# EAGLE library part AS6C4008 (library sram)
AS6C4008 static ram
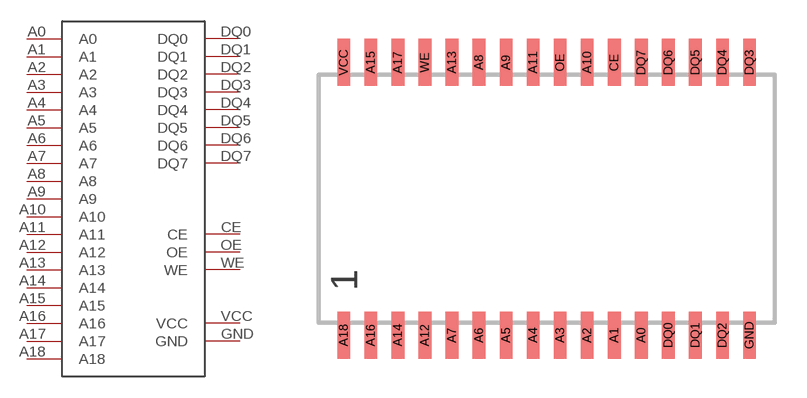
[diagram p0: symbol with the pads of SOP32; footprint SOP32]

Designator prefix -

## AS6C4008  [SOP32]
A0  A0
A1  A1
A2  A2
A3  A3
A4  A4
A5  A5
A6  A6
A7  A7
A8  A8
A9  A9
A10  A10
A11  A11
A12  A12
A13  A13
A14  A14
A15  A15
A16  A16
A17  A17
A18  A18
CE  CE
DQ0  DQ0
DQ1  DQ1
DQ2  DQ2
DQ3  DQ3
DQ4  DQ4
DQ5  DQ5
DQ6  DQ6
DQ7  DQ7
GND  GND
OE  OE
VCC  VCC
WE  WE

## Footprint SOP32 (pad centres in mm)
SMALL OUTLINE PACKAGE
smd 0.6 x 2.2: A0 4.445,-6.4; A1 3.175,-6.4; A2 1.905,-6.4; A3 0.635,-6.4; A4 -0.635,-6.4; A5 -1.905,-6.4; A6 -3.175,-6.4; A7 -4.445,-6.4; A8 -3.175,6.4; A9 -1.905,6.4; A10 1.905,6.4; A11 -0.635,6.4; A12 -5.715,-6.4; A13 -4.445,6.4; A14 -6.985,-6.4; A15 -8.255,6.4; A16 -8.255,-6.4; A17 -6.985,6.4; A18 -9.525,-6.4; CE 3.175,6.4; DQ0 5.715,-6.4; DQ1 6.985,-6.4; DQ2 8.255,-6.4; DQ3 9.525,6.4; DQ4 8.255,6.4; DQ5 6.985,6.4; DQ6 5.715,6.4; DQ7 4.445,6.4; GND 9.525,-6.4; OE 0.635,6.4; VCC -9.525,6.4; WE -5.715,6.4